# Altium footprint library 744311330.PcbLib: 1 footprints
Each footprint in its own frame and in the unit in brackets; x right, y up, seen from the top. Pads: shape width x height; smd on the part's side, far side on the other; paste and mask are expansions set on the pad; w line width, h text height; cw(c..) or ccw(c..) is an arc to the next point about the centre after c.
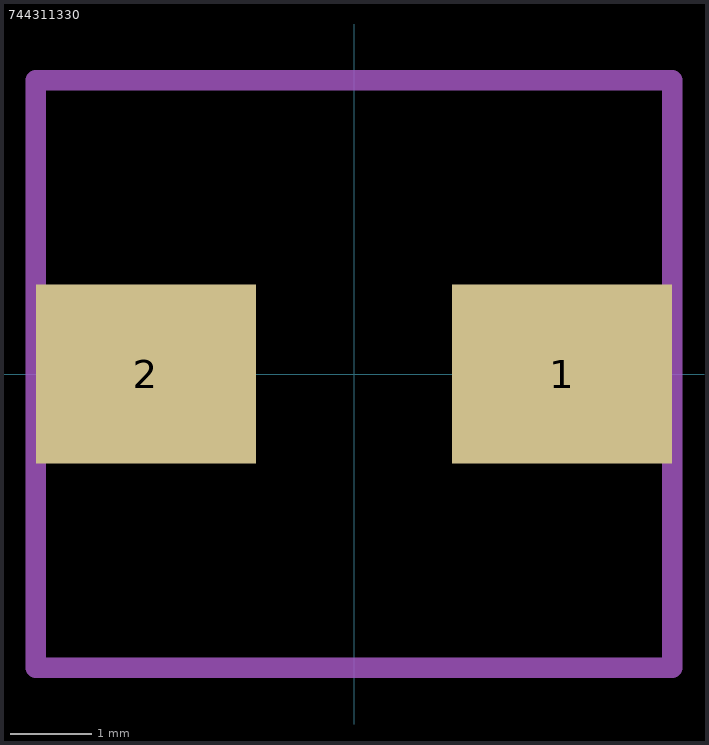
[diagram p0: the footprint, top view; thin cyan lines are the x and y axes]

## 744311330 [mm]
pads (2):
  rect 2.7x2.2 smd: 1(2.55,0) 2(-2.55,0)
Mechanical 1:
  lines w0.254: -3.9,-3.6 -3.9,3.6 3.9,3.6 3.9,-3.6 -3.9,-3.6